# Altium schematic symbol library LM1084.SchLib: 2 symbols
Pins are listed as number, name and electrical type; pins without a type are passive.

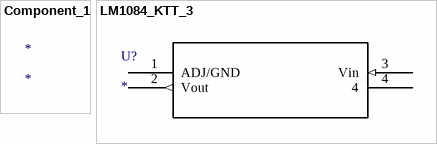
[diagram p0: symbols Component_1 to LM1084_KTT_3]

## Component_1
designator *

## LM1084_KTT_3
designator U?
Imported; PartNumber: LM1084IS-33; Comp: TypeLDO; Vendor: NationalSemiconductor; base_pn: LM1084; Symbol: NameLM1084IS-33; Library: ReferenceLM1084IS; Type: DEV; Version: 1; Pin: Count3; RefDes: RefDes; Value: Value
footprint TS3B
pins: 1 ADJ/GND, 2 Vout (out), 3 Vin (in), 4